# Altium schematic symbol library PCB_IT.SchLib: 2 symbols
Pins are listed as number, name and electrical type; pins without a type are passive.

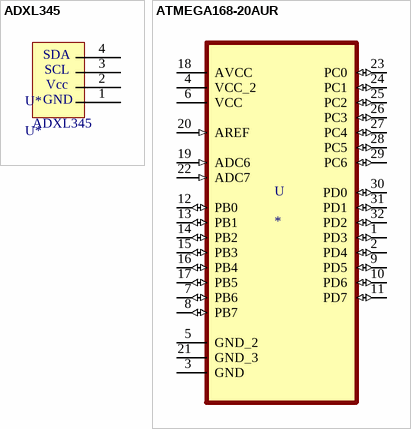
[diagram p0: symbols ADXL345 to ATMEGA168-20AUR]

## ADXL345
designator U*, comment U*
Accelerometer ADXL345
pins: 1, 2, 3, 4
text: SDA; SCL; Vcc; GND

## ATMEGA168-20AUR
designator U
ATMEGA168-20AUR; MF: Microchip; Value: *; Price: None; Availability: Unavailable; SnapEDA_Link: https://www.snapeda.com/parts/ATMEGA168-20AUR/Microchip/view-part/590566/?ref=snap; Package: TQFP-32 Microchip; MP: ATMEGA168-20AUR
pins: 1 PD3 (io), 2 PD4 (io), 3 GND, 4 VCC_2 (power), 5 GND_2, 6 VCC (power), 7 PB6 (io), 8 PB7 (io), 9 PD5 (io), 10 PD6 (io), 11 PD7 (io), 12 PB0 (io), 13 PB1 (io), 14 PB2 (io), 15 PB3 (io), 16 PB4 (io), 17 PB5 (io), 18 AVCC (power), 19 ADC6 (in), 20 AREF (in), 21 GND_3, 22 ADC7 (in), 23 PC0 (io), 24 PC1 (io), 25 PC2 (io), 26 PC3 (io), 27 PC4 (io), 28 PC5 (io), 29 PC6 (io), 30 PD0 (io), 31 PD1 (io), 32 PD2 (io)